# EAGLE library part EC32SXX (library STEMTera)
ES32Sxx
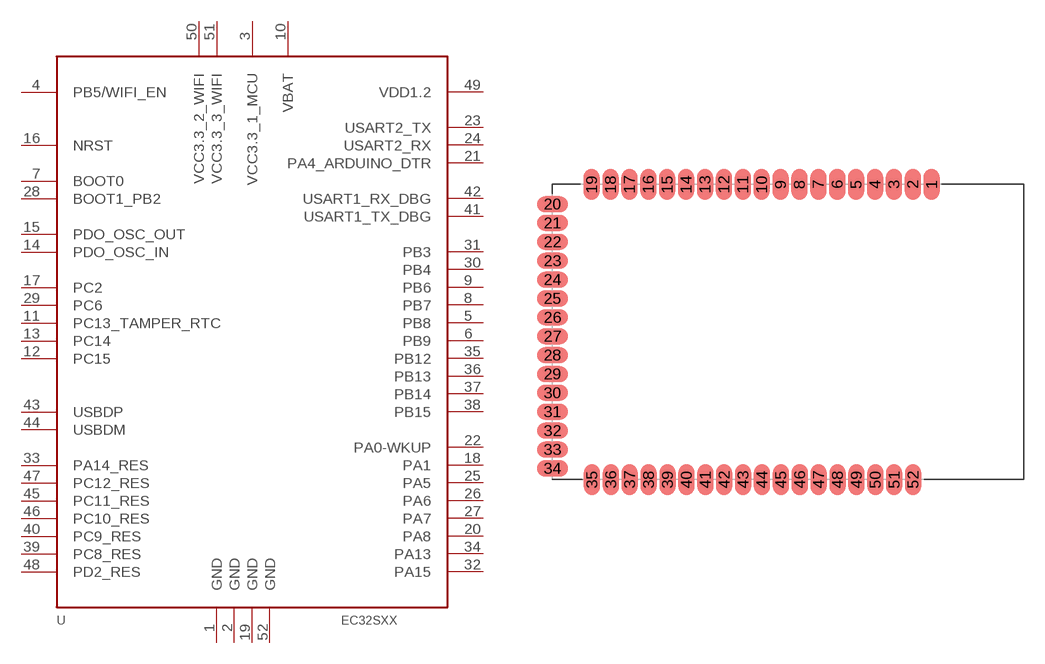
[diagram p14: symbol with the pads of EC32SXX; footprint EC32SXX]

Designator prefix -

## EC32SXX  [EC32SXX]
1  GND  pwr
2  GND  pwr
3  VCC3.3_1_MCU  pwr
4  PB5/WIFI_EN
5  PB8
6  PB9
7  BOOT0  in
8  PB7
9  PB6
10  VBAT  pwr
11  PC13_TAMPER_RTC
12  PC15
13  PC14
14  PDO_OSC_IN
15  PDO_OSC_OUT
16  NRST
17  PC2
18  PA1
19  GND  pwr
20  PA8  in
21  PA4_ARDUINO_DTR
22  PA0-WKUP
23  USART2_TX
24  USART2_RX
25  PA5
26  PA6
27  PA7
28  BOOT1_PB2
29  PC6
30  PB4
31  PB3  in
32  PA15
33  PA14_RES
34  PA13
35  PB12
36  PB13
37  PB14
38  PB15
39  PC8_RES
40  PC9_RES
41  USART1_TX_DBG
42  USART1_RX_DBG
43  USBDP
44  USBDM
45  PC11_RES
46  PC10_RES
47  PC12_RES
48  PD2_RES
49  VDD1.2  sup
50  VCC3.3_2_WIFI  pwr
51  VCC3.3_3_WIFI  pwr
52  GND  pwr

## Footprint EC32SXX (pad centres in mm)
EC32Sxx
smd 1.166 x 2.238: 1 27.584,21.488; 2 26.21,21.488; 3 24.836,21.488; 4 23.462,21.488; 5 22.088,21.488; 6 20.714,21.488; 7 19.34,21.488; 8 17.965,21.488; 9 16.591,21.488; 10 15.217,21.488; 11 13.843,21.488; 12 12.469,21.488; 13 11.095,21.488; 14 9.721,21.488; 15 8.346,21.488; 16 6.972,21.488; 17 5.598,21.488; 18 4.224,21.488; 19 2.85,21.488; 35 2.87,0; 36 4.244,0; 37 5.619,0; 38 6.993,0; 39 8.367,0; 40 9.741,0; 41 11.115,0; 42 12.489,0; 43 13.863,0; 44 15.237,0; 45 16.612,0; 46 17.986,0; 47 19.36,0; 48 20.734,0; 49 22.108,0; 50 23.482,0; 51 24.856,0; 52 26.231,0
smd 2.238 x 1.166: 20 0,20.048; 21 0,18.674; 22 0,17.3; 23 0,15.926; 24 0,14.552; 25 0,13.178; 26 0,11.804; 27 0,10.429; 28 0,9.055; 29 0,7.681; 30 0,6.307; 31 0,4.933; 32 0,3.559; 33 0,2.184; 34 0,0.81